# EAGLE library part IS61WV10248ALL-* (library memory-issi-asynsram)
1024k x 8 high- speed CMOS static RAM 20ns access time 2.2V power supply
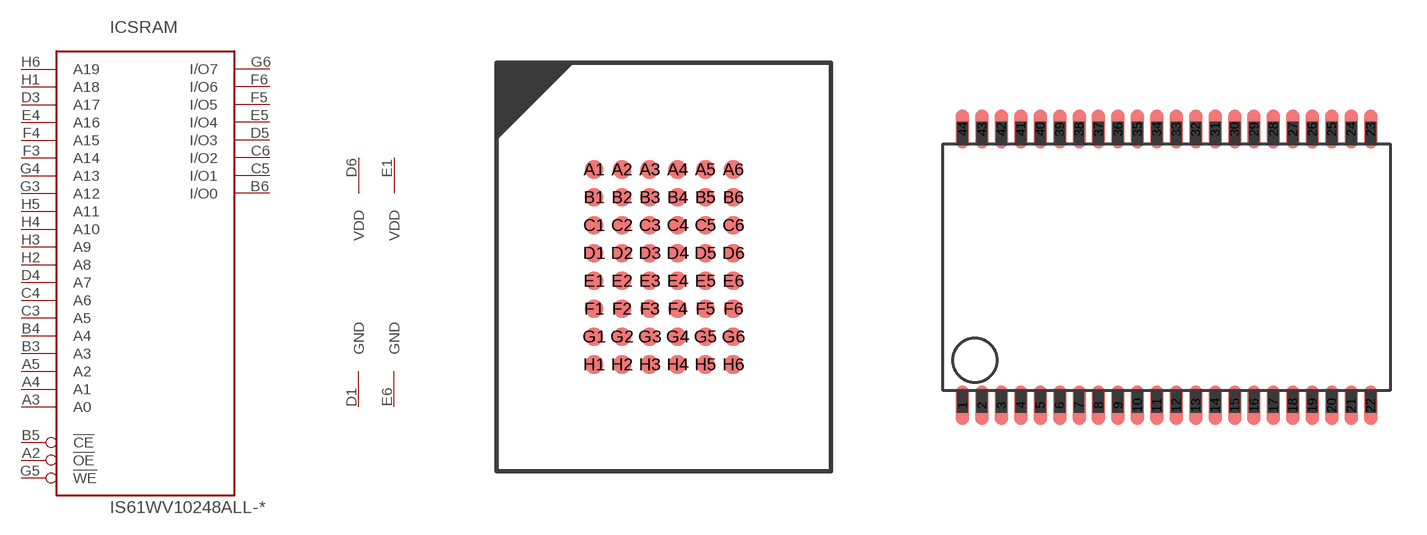
[diagram p51: symbol with the pads of TFBGA48_9X11; footprints TFBGA48_9X11, TSOP-II-44]

Designator prefix IC; gates SRAM=1024KX8_TYP1 PWR=PWR_VDD2_GND2

## IS61WV10248ALL-20M  [TFBGA48_9X11]
A2  SRAM:!OE  in
A3  SRAM:A0  in
A4  SRAM:A1  in
A5  SRAM:A2  in
B3  SRAM:A3  in
B4  SRAM:A4  in
B5  SRAM:!CE  in
B6  SRAM:I/O0  hiz
C3  SRAM:A5  in
C4  SRAM:A6  in
C5  SRAM:I/O1  hiz
C6  SRAM:I/O2  hiz
D1  PWR:GND  pwr
D3  SRAM:A17  in
D4  SRAM:A7  in
D5  SRAM:I/O3  hiz
D6  PWR:VDD  pwr
E1  PWR:VDD  pwr
E4  SRAM:A16  in
E5  SRAM:I/O4  hiz
E6  PWR:GND  pwr
F3  SRAM:A14  in
F4  SRAM:A15  in
F5  SRAM:I/O5  hiz
F6  SRAM:I/O6  hiz
G3  SRAM:A12  in
G4  SRAM:A13  in
G5  SRAM:!WE  in
G6  SRAM:I/O7  hiz
H1  SRAM:A18  in
H2  SRAM:A8  in
H3  SRAM:A9  in
H4  SRAM:A10  in
H5  SRAM:A11  in
H6  SRAM:A19  in

## IS61WV10248ALL-20T  [TSOP-II-44]
3  SRAM:A0  in
4  SRAM:A1  in
5  SRAM:A2  in
6  SRAM:A3  in
7  SRAM:A4  in
8  SRAM:!CE  in
9  SRAM:I/O0  hiz
10  SRAM:I/O1  hiz
11  PWR:VDD  pwr
12  PWR:GND  pwr
13  SRAM:I/O2  hiz
14  SRAM:I/O3  hiz
15  SRAM:!WE  in
16  SRAM:A5  in
17  SRAM:A6  in
18  SRAM:A7  in
19  SRAM:A8  in
20  SRAM:A9  in
25  SRAM:A19  in
26  SRAM:A10  in
27  SRAM:A11  in
28  SRAM:A12  in
29  SRAM:A13  in
30  SRAM:A14  in
31  SRAM:I/O4  hiz
32  SRAM:I/O5  hiz
33  PWR:VDD  pwr
34  PWR:GND  pwr
35  SRAM:I/O6  hiz
36  SRAM:I/O7  hiz
37  SRAM:!OE  in
38  SRAM:A15  in
39  SRAM:A16  in
40  SRAM:A17  in
41  SRAM:A18  in

## Footprint TFBGA48_9X11 (pad centres in mm)
TFBGA48 9 x 11 mm, 6 x 8-pin thin 0.75 mm pitch ball grid array package
smd 0.5 x 0.5: A1 -1.875,2.625; A2 -1.125,2.625; A3 -0.375,2.625; A4 0.375,2.625; A5 1.125,2.625; A6 1.875,2.625; B1 -1.875,1.875; B2 -1.125,1.875; B3 -0.375,1.875; B4 0.375,1.875; B5 1.125,1.875; B6 1.875,1.875; C1 -1.875,1.125; C2 -1.125,1.125; C3 -0.375,1.125; C4 0.375,1.125; C5 1.125,1.125; C6 1.875,1.125; D1 -1.875,0.375; D2 -1.125,0.375; D3 -0.375,0.375; D4 0.375,0.375; D5 1.125,0.375; D6 1.875,0.375; E1 -1.875,-0.375; E2 -1.125,-0.375; E3 -0.375,-0.375; E4 0.375,-0.375; E5 1.125,-0.375; E6 1.875,-0.375; F1 -1.875,-1.125; F2 -1.125,-1.125; F3 -0.375,-1.125; F4 0.375,-1.125; F5 1.125,-1.125; F6 1.875,-1.125; G1 -1.875,-1.875; G2 -1.125,-1.875; G3 -0.375,-1.875; G4 0.375,-1.875; G5 1.125,-1.875; G6 1.875,-1.875; H1 -1.875,-2.625; H2 -1.125,-2.625; H3 -0.375,-2.625; H4 0.375,-2.625; H5 1.125,-2.625; H6 1.875,-2.625

## Footprint TSOP-II-44 (pad centres in mm)
TSOP-II-44 44-pin thin small-outline package, Typ II
smd 0.55 x 1.6: 1 -8.4,-5.68; 2 -7.6,-5.68; 3 -6.8,-5.68; 4 -6,-5.68; 5 -5.2,-5.68; 6 -4.4,-5.68; 7 -3.6,-5.68; 8 -2.8,-5.68; 9 -2,-5.68; 10 -1.2,-5.68; 11 -0.4,-5.68; 12 0.4,-5.68; 13 1.2,-5.68; 14 2,-5.68; 15 2.8,-5.68; 16 3.6,-5.68; 17 4.4,-5.68; 18 5.2,-5.68; 19 6,-5.68; 20 6.8,-5.68; 21 7.6,-5.68; 22 8.4,-5.68; 23 8.4,5.68; 24 7.6,5.68; 25 6.8,5.68; 26 6,5.68; 27 5.2,5.68; 28 4.4,5.68; 29 3.6,5.68; 30 2.8,5.68; 31 2,5.68; 32 1.2,5.68; 33 0.4,5.68; 34 -0.4,5.68; 35 -1.2,5.68; 36 -2,5.68; 37 -2.8,5.68; 38 -3.6,5.68; 39 -4.4,5.68; 40 -5.2,5.68; 41 -6,5.68; 42 -6.8,5.68; 43 -7.6,5.68; 44 -8.4,5.68